# Altium schematic symbol library SCH - LOGO - LAGENFESNSTER 4.Schlib: 1 symbol
Pins are listed as number, name and electrical type; pins without a type are passive.

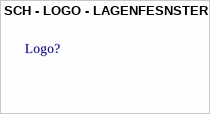
[diagram p0: symbol SCH - LOGO - LAGENFESNSTER 4]

## SCH - LOGO - LAGENFESNSTER 4
designator Logo?  (no BOM)
footprint Lagenfenster_4Layer